# Altium footprint library 充电基本电量.PcbLib: 21 footprints (part 2 of 2)
Each footprint in its own frame and in the unit in brackets; x right, y up, seen from the top. Pads: shape width x height; smd on the part's side, far side on the other; paste and mask are expansions set on the pad; w line width, h text height; cw(c..) or ccw(c..) is an arc to the next point about the centre after c.
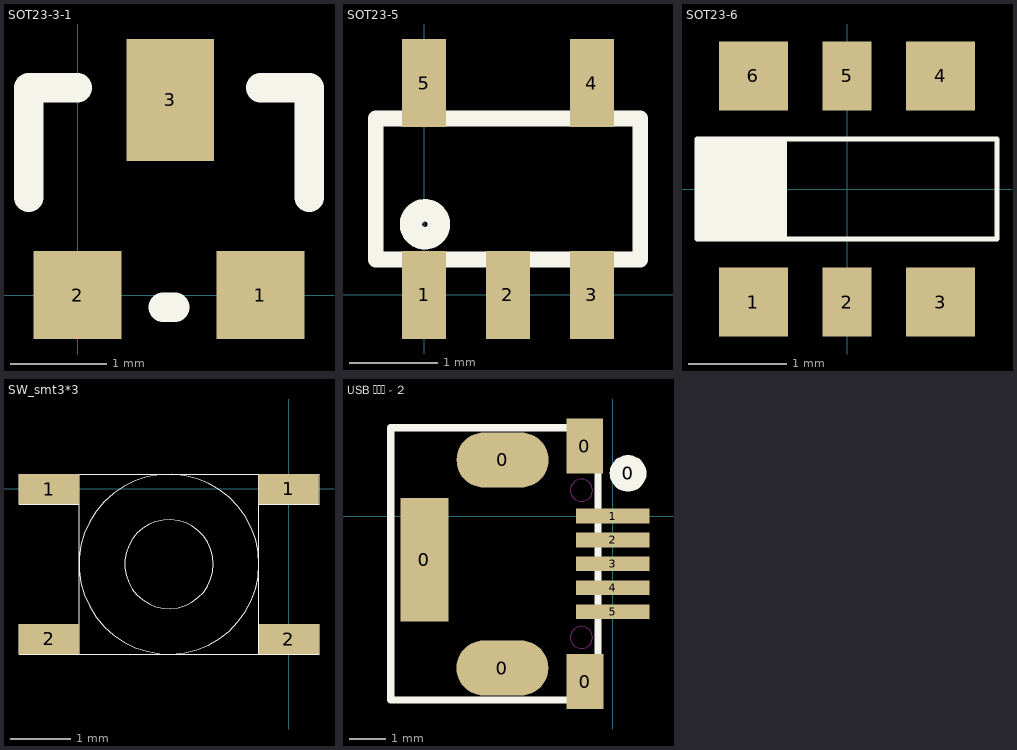
[diagram p1: the footprints below, top view; thin cyan lines are the x and y axes]

## SOT23-3-1 [mil]
height 19.68
pads (3):
  rect 36x36 smd: 1(75,0) 2(0,0)
  rect 36x50 smd: 3(38,80)
Top Overlay:
  lines w12: -20,40 -20,85 0,85 ; 35,-5 40,-5 ; 75,85 95,85 95,40

## SOT23-5 [mm]
height 0.5
pads (5):
  rect 0.5x1 smd: 1(0,0) 2(0.95,0) 3(1.9,0) 4(1.9,2.4) 5(0,2.4)
Top Overlay:
  circle w0.254: c0.008,0.8 r0.158
  lines w0.178: -0.55,0.4 -0.55,2 2.45,2 2.45,0.4 -0.55,0.4

## SOT23-6 [mm] "MAX9041,3mm*3mm*1.5mm"
height 1.5
pads (6):
  rect 0.7x0.7 smd: 1(-0.95,-1.15) 3(0.95,-1.15) 4(0.95,1.15) 6(-0.95,1.15)
  rect 0.5x0.7 smd: 2(0,-1.15) 5(0,1.15)
Top Overlay:
  rectangle: -1.524,-0.508 -0.609,0.511
  lines w0.051: -1.524,-0.508 -1.524,0.508 1.524,0.508 1.524,-0.508 -1.524,-0.508

## SW_smt3*3 [mm]
pads (4):
  rect 1x0.5 smd: 1(-3.993,-0.003) 1(0,0) 2(-3.994,-2.499) 2(0.002,-2.503)
Top Overlay:
  circle w0.003: c-1.996,-1.254 r1.5
  circle w0.003: c-1.996,-1.254 r0.74
  lines w0.003: -3.496,-2.754 -3.496,0.246 ; -3.496,-2.254 -4.496,-2.254 -4.496,-2.754 0.504,-2.754 0.504,-2.254 -0.496,-2.254 ; -3.496,-0.254 -4.496,-0.254 -4.496,0.246 0.504,0.246 0.504,-0.254 -0.496,-0.254 ; -0.496,-2.754 -0.496,0.246

## USB ��Ƭ - 2 [mm]
height 0.5
pads (11):
  rect 1.3x3.35 smd: 0(-5.123,-1.186)
  oval 2.5x1.5 all layers, no hole: 0(-3.003,-4.13) 0(-3,1.524)
  rect 1x1.5 smd: 0(-0.764,1.904) 0(-0.754,-4.498)
  round 1 on Top Overlay: 0(0.411,1.162)
  rect 2x0.4 smd: 1(0,0) 2(0,-0.65) 3(0,-1.3) 4(0,-1.95) 5(0,-2.6)
Top Overlay:
  lines w0.2: -6.034,-4.999 -0.404,-4.999 -0.404,2.401 -6.034,2.401 -6.034,-4.999
Bottom Overlay:
  lines w0.013: -1.254,-5.249 -1.254,-3.749 -0.254,-3.749 -0.254,-5.249 -1.254,-5.249 ; -1.254,1.151 -1.254,2.651 -0.254,2.651 -0.254,1.151 -1.254,1.151 ; -1.004,-2.799 1.096,-2.799 1.096,-2.399 -1.004,-2.399 -1.004,-2.799 ; -1.004,-2.149 1.096,-2.149 1.096,-1.749 -1.004,-1.749 -1.004,-2.149 ; -1.004,-1.499 1.096,-1.499 1.096,-1.099 -1.004,-1.099 -1.004,-1.499 ; -1.004,-0.849 1.096,-0.849 1.096,-0.449 -1.004,-0.449 -1.004,-0.849 ; -1.004,-0.199 1.096,-0.199 1.096,0.201 -1.004,0.201 -1.004,-0.199
Keep-Out Layer:
  circle w0.013: c-0.854,0.701 r0.3
  circle w0.013: c-0.854,0.701 r0.3
  circle w0.013: c-0.854,-3.299 r0.3
  circle w0.013: c-0.854,-3.299 r0.3
  lines w0.013: -3.554,-4.649 cw(c-3.554,-4.124) -3.554,-3.599 ; -3.554,-4.649 cw(c-3.554,-4.124) -3.554,-3.599 ; -3.554,-4.649 -2.454,-4.649 ; -3.554,-4.649 -2.454,-4.649 ; -3.554,-3.599 -2.454,-3.599 ; -3.554,-3.599 -2.454,-3.599 ; -3.554,1.001 cw(c-3.554,1.526) -3.554,2.051 ; -3.554,1.001 cw(c-3.554,1.526) -3.554,2.051 ; -3.554,1.001 -2.454,1.001 ; -3.554,1.001 -2.454,1.001 ; -3.554,2.051 -2.454,2.051 ; -3.554,2.051 -2.454,2.051 ; -2.454,-4.649 ccw(c-2.454,-4.124) -2.454,-3.599 ; -2.454,-4.649 ccw(c-2.454,-4.124) -2.454,-3.599 ; -2.454,1.001 ccw(c-2.454,1.526) -2.454,2.051 ; -2.454,1.001 ccw(c-2.454,1.526) -2.454,2.051